# EAGLE library part XCL101A501BR-G (library torex)
XCL101A501BR-G Torex Semiconductor DC DC converter
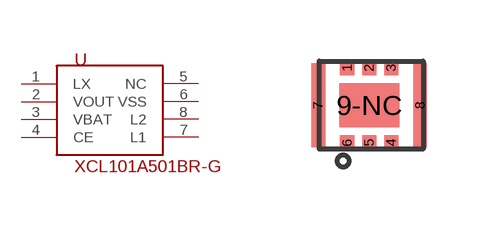
[diagram p0: symbol with the pads of CL-2025; footprint CL-2025]

Designator prefix -

## XCL101A501BR-G  [CL-2025]
1  LX
2  VOUT
3  VBAT
4  CE
5  NC
6  VSS
7  L1
8  L2

## Footprint CL-2025 (pad centres in mm)
The CL-2025 package
smd 0.35 x 0.375: 1 0.7,1.938; 2 1.25,1.938; 3 1.8,1.938; 4 1.8,0.062; 5 1.25,0.062; 6 0.7,0.062
smd 0.35 x 2.1: 7 -0.025,1; 8 2.525,1
smd 1.5 x 1.1: 9-NC 1.25,1